# Altium schematic symbol library YAGEO-MLCC-X7R-1210-25V.SchLib: 1 symbol
Pins are listed as number, name and electrical type; pins without a type are passive.

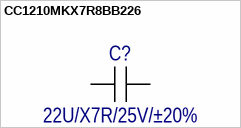
[diagram p0: symbol CC1210MKX7R8BB226]

## CC1210MKX7R8BB226
designator C?  value 22U/X7R/25V/±20%  (hidden comment: *)
Ceramic Capacitor SMD 1210
footprint MLCC-1210-L3200-W2500-H2500 (Chip Multilayer Ceramic Capacitor, 1210 Thickness 2.5mm, Overlay Border)
pins: 1, 2